# EAGLE library part PIC- (library suhyouri)
PIC16F688-I/SL 집적회로-내장형 마이크로컨트롤러 IC MCU 8BIT 7KB FLASH 14SOIC https://www.digikey.kr/product-detail/ko/microchip-technology/PIC16F688-I-SL/PIC16F688-I-SL-ND/593004
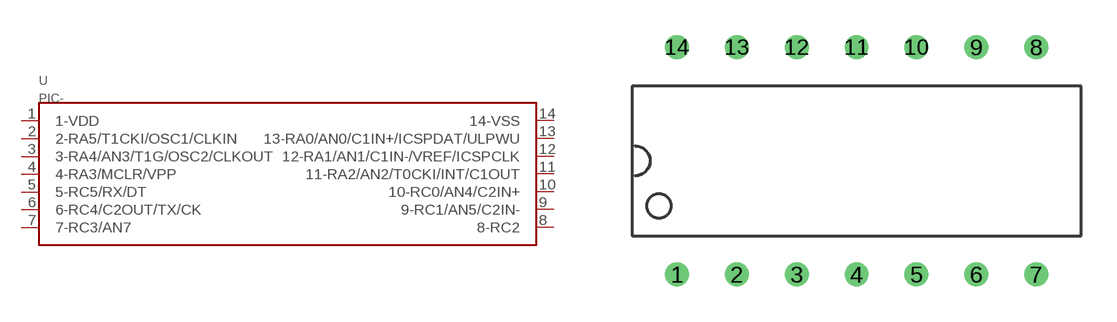
[diagram p2: symbol with the pads of PIC16F688-I/SL; footprint PIC16F688-I/SL]

Designator prefix -

## PIC-16F688-I/SL  [PIC16F688-I/SL]
1  1-VDD
2  2-RA5/T1CKI/OSC1/CLKIN
3  3-RA4/AN3/T1G/OSC2/CLKOUT
4  4-RA3/MCLR/VPP
5  5-RC5/RX/DT
6  6-RC4/C2OUT/TX/CK
7  7-RC3/AN7
8  8-RC2
9  9-RC1/AN5/C2IN-
10  10-RC0/AN4/C2IN+
11  11-RA2/AN2/T0CKI/INT/C1OUT
12  12-RA1/AN1/C1IN-/VREF/ICSPCLK
13  13-RA0/AN0/C1IN+/ICSPDAT/ULPWU
14  14-VSS

## Footprint PIC16F688-I/SL (pad centres in mm)
PIC16F688-I/SL 집적회로-내장형 마이크로컨트롤러 IC MCU 8BIT 7KB FLASH 14SOIC https://www.digikey.kr/product-detail/ko/microchip-technology/PIC16F688-I-SL/PIC16F688-I-SL-ND/593004
drill 0.508: 1 -7.62,-1.651; 2 -5.08,-1.651; 3 -2.54,-1.651; 4 0,-1.651; 5 2.54,-1.651; 6 5.08,-1.651; 7 7.62,-1.651; 8 7.62,8.001; 9 5.08,8.001; 10 2.54,8.001; 11 0,8.001; 12 -2.54,8.001; 13 -5.08,8.001; 14 -7.62,8.001